# Altium integrated library EMOTION-GLASS.IntLib: 15 symbols
Pins are listed as number, name and electrical type; pins without a type are passive.

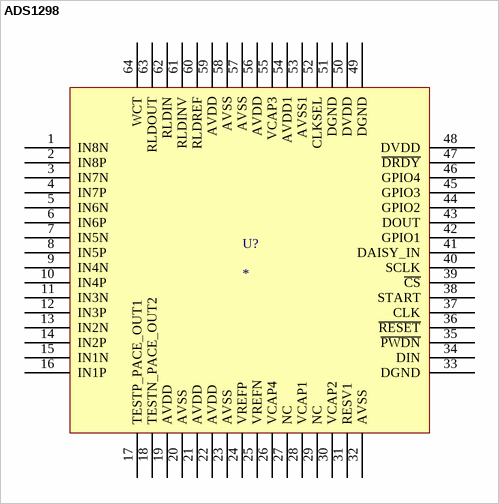
[diagram p0: symbol ADS1298]

## ADS1298
designator U?
footprint ADS1298
pins: 1 IN8N, 2 IN8P, 3 IN7N, 4 IN7P, 5 IN6N, 6 IN6P, 7 IN5N, 8 IN5P, 9 IN4N, 10 IN4P, 11 IN3N, 12 IN3P, 13 IN2N, 14 IN2P, 15 IN1N, 16 IN1P, 17 TESTP_PACE_OUT1, 18 TESTN_PACE_OUT2, 19 AVDD, 20 AVSS, 21 AVDD, 22 AVDD, 23 AVSS, 24 VREFP, 25 VREFN, 26 VCAP4, 27 NC, 28 VCAP1, 29 NC, 30 VCAP2, 31 RESV1, 32 AVSS, 33 DGND, 34 DIN, 35 ~{PWDN}, 36 ~{RESET}, 37 CLK, 38 START, 39 ~{CS}, 40 SCLK, 41 DAISY_IN, 42 GPIO1, 43 DOUT, 44 GPIO2, 45 GPIO3, 46 GPIO4, 47 ~{DRDY}, 48 DVDD, 49 DGND, 50 DVDD, 51 DGND, 52 CLKSEL, 53 AVSS1, 54 AVDD1, 55 VCAP3, 56 AVDD, 57 AVSS, 58 AVSS, 59 AVDD, 60 RLDREF, 61 RLDINV, 62 RLDIN, 63 RLDOUT, 64 WCT


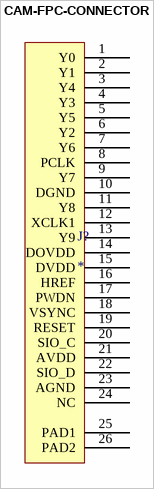
[diagram p1: symbol CAM-FPC-CONNECTOR]

## CAM-FPC-CONNECTOR
designator J?
footprint CAM-CONNECTOR
pins: 1 Y0, 2 Y1, 3 Y4, 4 Y3, 5 Y5, 6 Y2, 7 Y6, 8 PCLK, 9 Y7, 10 DGND, 11 Y8, 12 XCLK1, 13 Y9, 14 DOVDD, 15 DVDD, 16 HREF, 17 PWDN, 18 VSYNC, 19 RESET, 20 SIO_C, 21 AVDD, 22 SIO_D, 23 AGND, 24 NC, 25 PAD1, 26 PAD2


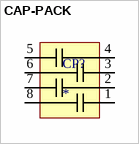
[diagram p2: symbol CAP-PACK]

## CAP-PACK
designator CP?
footprint CAP-PACK-4
pins: 1, 2, 3, 4, 5, 6, 7, 8


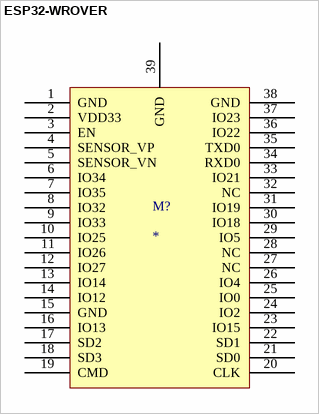
[diagram p3: symbol ESP32-WROVER]

## ESP32-WROVER
designator M?
footprint ESP-32-WROVER
pins: 1 GND, 2 VDD33, 3 EN, 4 SENSOR_VP, 5 SENSOR_VN, 6 IO34, 7 IO35, 8 IO32, 9 IO33, 10 IO25, 11 IO26, 12 IO27, 13 IO14, 14 IO12, 15 GND, 16 IO13, 17 SD2, 18 SD3, 19 CMD, 20 CLK, 21 SD0, 22 SD1, 23 IO15, 24 IO2, 25 IO0, 26 IO4, 27 NC, 28 NC, 29 IO5, 30 IO18, 31 IO19, 32 NC, 33 IO21, 34 RXD0, 35 TXD0, 36 IO22, 37 IO23, 38 GND, 39 GND


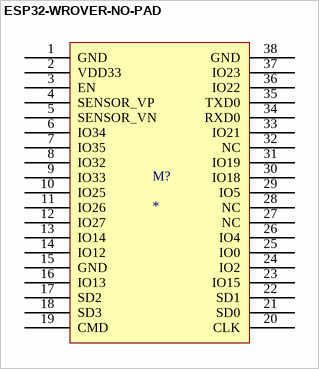
[diagram p4: symbol ESP32-WROVER-NO-PAD]

## ESP32-WROVER-NO-PAD
designator M?
footprint ESP32-WROVER-NO-PAD
pins: 1 GND, 2 VDD33, 3 EN, 4 SENSOR_VP, 5 SENSOR_VN, 6 IO34, 7 IO35, 8 IO32, 9 IO33, 10 IO25, 11 IO26, 12 IO27, 13 IO14, 14 IO12, 15 GND, 16 IO13, 17 SD2, 18 SD3, 19 CMD, 20 CLK, 21 SD0, 22 SD1, 23 IO15, 24 IO2, 25 IO0, 26 IO4, 27 NC, 28 NC, 29 IO5, 30 IO18, 31 IO19, 32 NC, 33 IO21, 34 RXD0, 35 TXD0, 36 IO22, 37 IO23, 38 GND


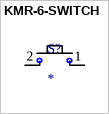
[diagram p5: symbol KMR-6-SWITCH]

## KMR-6-SWITCH
designator S?
footprint KMR-6-SWITCH
pins: 1, 2


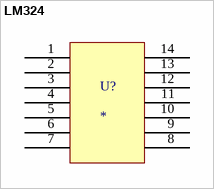
[diagram p6: symbol LM324]

## LM324
designator U?
footprint LM324
pins: 1, 2, 3, 4, 5, 6, 7, 8, 9, 10, 11, 12, 13, 14


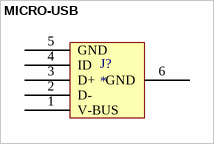
[diagram p7: symbol MICRO-USB]

## MICRO-USB
designator J?
footprint MICRO-USB
pins: 1 V-BUS, 2 D-, 3 D+, 4 ID, 5 GND, 6 GND


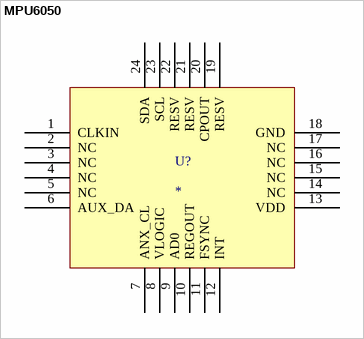
[diagram p8: symbol MPU6050]

## MPU6050
designator U?
footprint MPU-6050
pins: 1 CLKIN, 2 NC, 3 NC, 4 NC, 5 NC, 6 AUX_DA, 7 ANX_CL, 8 VLOGIC, 9 AD0, 10 REGOUT, 11 FSYNC, 12 INT, 13 VDD, 14 NC, 15 NC, 16 NC, 17 NC, 18 GND, 19 RESV, 20 CPOUT, 21 RESV, 22 RESV, 23 SCL, 24 SDA


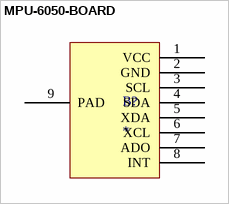
[diagram p9: symbol MPU-6050-BOARD]

## MPU-6050-BOARD
designator B?
footprint MPU-6050-BOARD
pins: 1 VCC, 2 GND, 3 SCL, 4 SDA, 5 XDA, 6 XCL, 7 ADO, 8 INT, 9 PAD


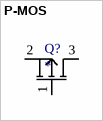
[diagram p10: symbol P-MOS]

## P-MOS
designator Q?
footprint PCBComponent_1
pins: 1, 2, 3


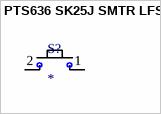
[diagram p11: symbol PTS636 SK25J SMTR LFS]

## PTS636 SK25J SMTR LFS
designator S?
footprint PTS636 SK25J SMTR LFS
pins: 1, 2


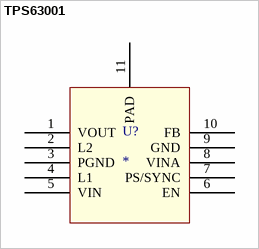
[diagram p12: symbol TPS63001]

## TPS63001
designator U?
footprint TPS63001
pins: 1 VOUT, 2 L2, 3 PGND, 4 L1, 5 VIN, 6 EN, 7 PS/SYNC, 8 VINA, 9 GND, 10 FB, 11 PAD


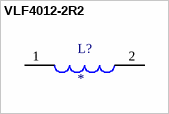
[diagram p13: symbol VLF4012-2R2]

## VLF4012-2R2
designator L?
L: 1uH
footprint VLF4012-2R2-INDUCTOR
pins: 1, 2


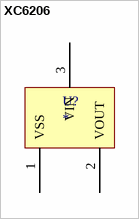
[diagram p14: symbol XC6206]

## XC6206
designator U?
footprint XC6206-SOT-23
pins: 1 VSS, 2 VOUT, 3 VIN